# Altium footprint library IPC-7359 QFN_Sq_65P_Side_N.PcbLib: 48 footprints (part 3 of 3)
Each footprint in its own frame and in the unit in brackets; x right, y up, seen from the top. Pads: shape width x height; smd on the part's side, far side on the other; paste and mask are expansions set on the pad; w line width, h text height; cw(c..) or ccw(c..) is an arc to the next point about the centre after c.
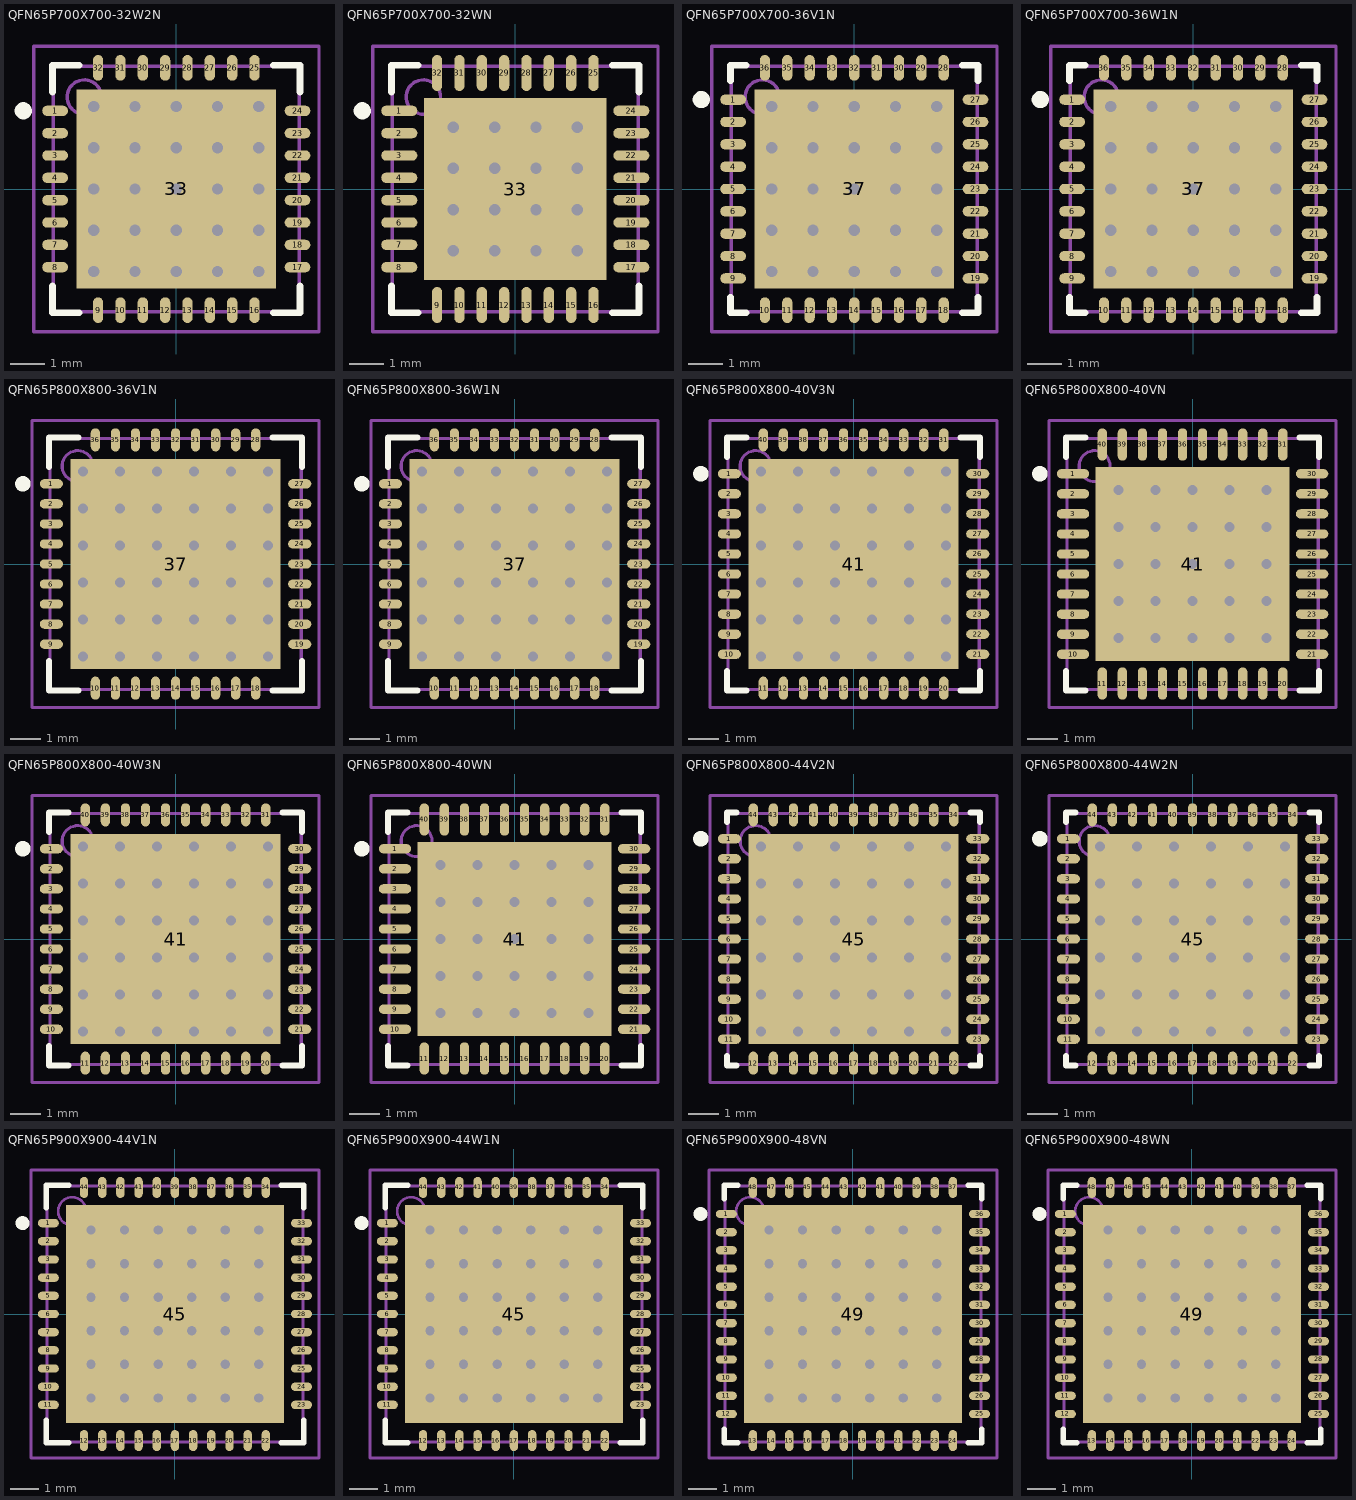
[diagram p2: the footprints below, top view; thin cyan lines are the x and y axes]

## QFN65P700X700-32W2N [mm] "QFN, 32-Leads, Body 7x7 mm, Pitch 0.65mm, IPC Medium Density"
height 0.8
pads (33):
  oval 0.75x0.3 smd: 1(-3.525,2.275) 2(-3.525,1.625) 3(-3.525,0.975) 4(-3.525,0.325) 5(-3.525,-0.325) 6(-3.525,-0.975) 7(-3.525,-1.625) 8(-3.525,-2.275) 17(3.525,-2.275) 18(3.525,-1.625) 19(3.525,-0.975) 20(3.525,-0.325) 21(3.525,0.325) 22(3.525,0.975) 23(3.525,1.625) 24(3.525,2.275)
  oval 0.3x0.75 smd: 9(-2.275,-3.525) 10(-1.625,-3.525) 11(-0.975,-3.525) 12(-0.325,-3.525) 13(0.325,-3.525) 14(0.975,-3.525) 15(1.625,-3.525) 16(2.275,-3.525) 25(2.275,3.525) 26(1.625,3.525) 27(0.975,3.525) 28(0.325,3.525) 29(-0.325,3.525) 30(-0.975,3.525) 31(-1.625,3.525) 32(-2.275,3.525)
  rect 5.8x5.8 smd: 33(0,0)
via 2.4,-2.4 diameter 0.66 hole 0.33
via 1.2,-2.4 diameter 0.66 hole 0.33
via 0,-2.4 diameter 0.66 hole 0.33
via -1.2,-2.4 diameter 0.66 hole 0.33
via -2.4,-2.4 diameter 0.66 hole 0.33
via 2.4,-1.2 diameter 0.66 hole 0.33
via 1.2,-1.2 diameter 0.66 hole 0.33
via 0,-1.2 diameter 0.66 hole 0.33
via -1.2,-1.2 diameter 0.66 hole 0.33
via -2.4,-1.2 diameter 0.66 hole 0.33
via 2.4,0 diameter 0.66 hole 0.33
via 1.2,0 diameter 0.66 hole 0.33
via 0,0 diameter 0.66 hole 0.33
via -1.2,0 diameter 0.66 hole 0.33
via -2.4,0 diameter 0.66 hole 0.33
via 2.4,1.2 diameter 0.66 hole 0.33
via 1.2,1.2 diameter 0.66 hole 0.33
via 0,1.2 diameter 0.66 hole 0.33
via -1.2,1.2 diameter 0.66 hole 0.33
via -2.4,1.2 diameter 0.66 hole 0.33
via 2.4,2.4 diameter 0.66 hole 0.33
via 1.2,2.4 diameter 0.66 hole 0.33
via 0,2.4 diameter 0.66 hole 0.33
via -1.2,2.4 diameter 0.66 hole 0.33
via -2.4,2.4 diameter 0.66 hole 0.33
Top Overlay:
  circle w0.25: c-4.45,2.275 r0.125
  lines w0.2: -3.6,-2.825 -3.6,-3.6 -2.825,-3.6 ; -3.6,2.825 -3.6,3.6 -2.825,3.6 ; 2.825,-3.6 3.6,-3.6 3.6,-2.825 ; 2.825,3.6 3.6,3.6 3.6,2.825
Mechanical 13:
  circle w0.1: c-2.675,2.675 r0.5
  lines w0.1: -3.575,-3.575 3.575,-3.575 3.575,3.575 -3.575,3.575 -3.575,-3.575
Mechanical 15:
  lines w0.1: -0.5,0 0.5,0 ; 0,-0.5 0,0.5 ; -4.15,-4.15 4.15,-4.15 4.15,4.15 -4.15,4.15 -4.15,-4.15
3D body: height 0.8, standoff 0, extent -3.575,-3.575 3.575,3.575

## QFN65P700X700-32WN [mm] "QFN, 32-Leads, Body 7x7 mm, Pitch 0.65mm, IPC Medium Density"
height 0.8
pads (33):
  oval 1.05x0.3 smd: 1(-3.375,2.275) 2(-3.375,1.625) 3(-3.375,0.975) 4(-3.375,0.325) 5(-3.375,-0.325) 6(-3.375,-0.975) 7(-3.375,-1.625) 8(-3.375,-2.275) 17(3.375,-2.275) 18(3.375,-1.625) 19(3.375,-0.975) 20(3.375,-0.325) 21(3.375,0.325) 22(3.375,0.975) 23(3.375,1.625) 24(3.375,2.275)
  oval 0.3x1.05 smd: 9(-2.275,-3.375) 10(-1.625,-3.375) 11(-0.975,-3.375) 12(-0.325,-3.375) 13(0.325,-3.375) 14(0.975,-3.375) 15(1.625,-3.375) 16(2.275,-3.375) 25(2.275,3.375) 26(1.625,3.375) 27(0.975,3.375) 28(0.325,3.375) 29(-0.325,3.375) 30(-0.975,3.375) 31(-1.625,3.375) 32(-2.275,3.375)
  rect 5.3x5.3 smd: 33(0,0)
via 1.8,-1.8 diameter 0.66 hole 0.33
via 0.6,-1.8 diameter 0.66 hole 0.33
via -0.6,-1.8 diameter 0.66 hole 0.33
via -1.8,-1.8 diameter 0.66 hole 0.33
via 1.8,-0.6 diameter 0.66 hole 0.33
via 0.6,-0.6 diameter 0.66 hole 0.33
via -0.6,-0.6 diameter 0.66 hole 0.33
via -1.8,-0.6 diameter 0.66 hole 0.33
via 1.8,0.6 diameter 0.66 hole 0.33
via 0.6,0.6 diameter 0.66 hole 0.33
via -0.6,0.6 diameter 0.66 hole 0.33
via -1.8,0.6 diameter 0.66 hole 0.33
via 1.8,1.8 diameter 0.66 hole 0.33
via 0.6,1.8 diameter 0.66 hole 0.33
via -0.6,1.8 diameter 0.66 hole 0.33
via -1.8,1.8 diameter 0.66 hole 0.33
Top Overlay:
  circle w0.25: c-4.45,2.275 r0.125
  lines w0.2: -3.6,-2.825 -3.6,-3.6 -2.825,-3.6 ; -3.6,2.825 -3.6,3.6 -2.825,3.6 ; 2.825,-3.6 3.6,-3.6 3.6,-2.825 ; 2.825,3.6 3.6,3.6 3.6,2.825
Mechanical 13:
  circle w0.1: c-2.675,2.675 r0.5
  lines w0.1: -3.575,-3.575 3.575,-3.575 3.575,3.575 -3.575,3.575 -3.575,-3.575
Mechanical 15:
  lines w0.1: -0.5,0 0.5,0 ; 0,-0.5 0,0.5 ; -4.15,-4.15 4.15,-4.15 4.15,4.15 -4.15,4.15 -4.15,-4.15
3D body: height 0.8, standoff 0, extent -3.575,-3.575 3.575,3.575

## QFN65P700X700-36V1N [mm] "QFN, 36-Leads, Body 7x7 mm, Pitch 0.65mm, IPC Medium Density"
height 1
pads (37):
  oval 0.75x0.3 smd: 1(-3.525,2.6) 2(-3.525,1.95) 3(-3.525,1.3) 4(-3.525,0.65) 5(-3.525,0) 6(-3.525,-0.65) 7(-3.525,-1.3) 8(-3.525,-1.95) 9(-3.525,-2.6) 19(3.525,-2.6) 20(3.525,-1.95) 21(3.525,-1.3) 22(3.525,-0.65) 23(3.525,0) 24(3.525,0.65) 25(3.525,1.3) 26(3.525,1.95) 27(3.525,2.6)
  oval 0.3x0.75 smd: 10(-2.6,-3.525) 11(-1.95,-3.525) 12(-1.3,-3.525) 13(-0.65,-3.525) 14(0,-3.525) 15(0.65,-3.525) 16(1.3,-3.525) 17(1.95,-3.525) 18(2.6,-3.525) 28(2.6,3.525) 29(1.95,3.525) 30(1.3,3.525) 31(0.65,3.525) 32(0,3.525) 33(-0.65,3.525) 34(-1.3,3.525) 35(-1.95,3.525) 36(-2.6,3.525)
  rect 5.8x5.8 smd: 37(0,0)
via 2.4,-2.4 diameter 0.66 hole 0.33
via 1.2,-2.4 diameter 0.66 hole 0.33
via 0,-2.4 diameter 0.66 hole 0.33
via -1.2,-2.4 diameter 0.66 hole 0.33
via -2.4,-2.4 diameter 0.66 hole 0.33
via 2.4,-1.2 diameter 0.66 hole 0.33
via 1.2,-1.2 diameter 0.66 hole 0.33
via 0,-1.2 diameter 0.66 hole 0.33
via -1.2,-1.2 diameter 0.66 hole 0.33
via -2.4,-1.2 diameter 0.66 hole 0.33
via 2.4,0 diameter 0.66 hole 0.33
via 1.2,0 diameter 0.66 hole 0.33
via 0,0 diameter 0.66 hole 0.33
via -1.2,0 diameter 0.66 hole 0.33
via -2.4,0 diameter 0.66 hole 0.33
via 2.4,1.2 diameter 0.66 hole 0.33
via 1.2,1.2 diameter 0.66 hole 0.33
via 0,1.2 diameter 0.66 hole 0.33
via -1.2,1.2 diameter 0.66 hole 0.33
via -2.4,1.2 diameter 0.66 hole 0.33
via 2.4,2.4 diameter 0.66 hole 0.33
via 1.2,2.4 diameter 0.66 hole 0.33
via 0,2.4 diameter 0.66 hole 0.33
via -1.2,2.4 diameter 0.66 hole 0.33
via -2.4,2.4 diameter 0.66 hole 0.33
Top Overlay:
  circle w0.25: c-4.45,2.6 r0.125
  lines w0.2: -3.6,-3.15 -3.6,-3.6 -3.15,-3.6 ; -3.6,3.15 -3.6,3.6 -3.15,3.6 ; 3.15,-3.6 3.6,-3.6 3.6,-3.15 ; 3.15,3.6 3.6,3.6 3.6,3.15
Mechanical 13:
  circle w0.1: c-2.675,2.675 r0.5
  lines w0.1: -3.575,-3.575 3.575,-3.575 3.575,3.575 -3.575,3.575 -3.575,-3.575
Mechanical 15:
  lines w0.1: -0.5,0 0.5,0 ; 0,-0.5 0,0.5 ; -4.15,-4.15 4.15,-4.15 4.15,4.15 -4.15,4.15 -4.15,-4.15
3D body: height 1, standoff 0, extent -3.575,-3.575 3.575,3.575

## QFN65P700X700-36W1N [mm] "QFN, 36-Leads, Body 7x7 mm, Pitch 0.65mm, IPC Medium Density"
height 0.8
pads (37):
  oval 0.75x0.3 smd: 1(-3.525,2.6) 2(-3.525,1.95) 3(-3.525,1.3) 4(-3.525,0.65) 5(-3.525,0) 6(-3.525,-0.65) 7(-3.525,-1.3) 8(-3.525,-1.95) 9(-3.525,-2.6) 19(3.525,-2.6) 20(3.525,-1.95) 21(3.525,-1.3) 22(3.525,-0.65) 23(3.525,0) 24(3.525,0.65) 25(3.525,1.3) 26(3.525,1.95) 27(3.525,2.6)
  oval 0.3x0.75 smd: 10(-2.6,-3.525) 11(-1.95,-3.525) 12(-1.3,-3.525) 13(-0.65,-3.525) 14(0,-3.525) 15(0.65,-3.525) 16(1.3,-3.525) 17(1.95,-3.525) 18(2.6,-3.525) 28(2.6,3.525) 29(1.95,3.525) 30(1.3,3.525) 31(0.65,3.525) 32(0,3.525) 33(-0.65,3.525) 34(-1.3,3.525) 35(-1.95,3.525) 36(-2.6,3.525)
  rect 5.8x5.8 smd: 37(0,0)
via 2.4,-2.4 diameter 0.66 hole 0.33
via 1.2,-2.4 diameter 0.66 hole 0.33
via 0,-2.4 diameter 0.66 hole 0.33
via -1.2,-2.4 diameter 0.66 hole 0.33
via -2.4,-2.4 diameter 0.66 hole 0.33
via 2.4,-1.2 diameter 0.66 hole 0.33
via 1.2,-1.2 diameter 0.66 hole 0.33
via 0,-1.2 diameter 0.66 hole 0.33
via -1.2,-1.2 diameter 0.66 hole 0.33
via -2.4,-1.2 diameter 0.66 hole 0.33
via 2.4,0 diameter 0.66 hole 0.33
via 1.2,0 diameter 0.66 hole 0.33
via 0,0 diameter 0.66 hole 0.33
via -1.2,0 diameter 0.66 hole 0.33
via -2.4,0 diameter 0.66 hole 0.33
via 2.4,1.2 diameter 0.66 hole 0.33
via 1.2,1.2 diameter 0.66 hole 0.33
via 0,1.2 diameter 0.66 hole 0.33
via -1.2,1.2 diameter 0.66 hole 0.33
via -2.4,1.2 diameter 0.66 hole 0.33
via 2.4,2.4 diameter 0.66 hole 0.33
via 1.2,2.4 diameter 0.66 hole 0.33
via 0,2.4 diameter 0.66 hole 0.33
via -1.2,2.4 diameter 0.66 hole 0.33
via -2.4,2.4 diameter 0.66 hole 0.33
Top Overlay:
  circle w0.25: c-4.45,2.6 r0.125
  lines w0.2: -3.6,-3.15 -3.6,-3.6 -3.15,-3.6 ; -3.6,3.15 -3.6,3.6 -3.15,3.6 ; 3.15,-3.6 3.6,-3.6 3.6,-3.15 ; 3.15,3.6 3.6,3.6 3.6,3.15
Mechanical 13:
  circle w0.1: c-2.675,2.675 r0.5
  lines w0.1: -3.575,-3.575 3.575,-3.575 3.575,3.575 -3.575,3.575 -3.575,-3.575
Mechanical 15:
  lines w0.1: -0.5,0 0.5,0 ; 0,-0.5 0,0.5 ; -4.15,-4.15 4.15,-4.15 4.15,4.15 -4.15,4.15 -4.15,-4.15
3D body: height 0.8, standoff 0, extent -3.575,-3.575 3.575,3.575

## QFN65P800X800-36V1N [mm] "QFN, 36-Leads, Body 8x8 mm, Pitch 0.65mm, IPC Medium Density"
height 1
pads (37):
  oval 0.75x0.3 smd: 1(-4.025,2.6) 2(-4.025,1.95) 3(-4.025,1.3) 4(-4.025,0.65) 5(-4.025,0) 6(-4.025,-0.65) 7(-4.025,-1.3) 8(-4.025,-1.95) 9(-4.025,-2.6) 19(4.025,-2.6) 20(4.025,-1.95) 21(4.025,-1.3) 22(4.025,-0.65) 23(4.025,0) 24(4.025,0.65) 25(4.025,1.3) 26(4.025,1.95) 27(4.025,2.6)
  oval 0.3x0.75 smd: 10(-2.6,-4.025) 11(-1.95,-4.025) 12(-1.3,-4.025) 13(-0.65,-4.025) 14(0,-4.025) 15(0.65,-4.025) 16(1.3,-4.025) 17(1.95,-4.025) 18(2.6,-4.025) 28(2.6,4.025) 29(1.95,4.025) 30(1.3,4.025) 31(0.65,4.025) 32(0,4.025) 33(-0.65,4.025) 34(-1.3,4.025) 35(-1.95,4.025) 36(-2.6,4.025)
  rect 6.8x6.8 smd: 37(0,0)
via 3,-3 diameter 0.66 hole 0.33
via 1.8,-3 diameter 0.66 hole 0.33
via 0.6,-3 diameter 0.66 hole 0.33
via -0.6,-3 diameter 0.66 hole 0.33
via -1.8,-3 diameter 0.66 hole 0.33
via -3,-3 diameter 0.66 hole 0.33
via 3,-1.8 diameter 0.66 hole 0.33
via 1.8,-1.8 diameter 0.66 hole 0.33
via 0.6,-1.8 diameter 0.66 hole 0.33
via -0.6,-1.8 diameter 0.66 hole 0.33
via -1.8,-1.8 diameter 0.66 hole 0.33
via -3,-1.8 diameter 0.66 hole 0.33
via 3,-0.6 diameter 0.66 hole 0.33
via 1.8,-0.6 diameter 0.66 hole 0.33
via 0.6,-0.6 diameter 0.66 hole 0.33
via -0.6,-0.6 diameter 0.66 hole 0.33
via -1.8,-0.6 diameter 0.66 hole 0.33
via -3,-0.6 diameter 0.66 hole 0.33
via 3,0.6 diameter 0.66 hole 0.33
via 1.8,0.6 diameter 0.66 hole 0.33
via 0.6,0.6 diameter 0.66 hole 0.33
via -0.6,0.6 diameter 0.66 hole 0.33
via -1.8,0.6 diameter 0.66 hole 0.33
via -3,0.6 diameter 0.66 hole 0.33
via 3,1.8 diameter 0.66 hole 0.33
via 1.8,1.8 diameter 0.66 hole 0.33
via 0.6,1.8 diameter 0.66 hole 0.33
via -0.6,1.8 diameter 0.66 hole 0.33
via -1.8,1.8 diameter 0.66 hole 0.33
via -3,1.8 diameter 0.66 hole 0.33
via 3,3 diameter 0.66 hole 0.33
via 1.8,3 diameter 0.66 hole 0.33
via 0.6,3 diameter 0.66 hole 0.33
via -0.6,3 diameter 0.66 hole 0.33
via -1.8,3 diameter 0.66 hole 0.33
via -3,3 diameter 0.66 hole 0.33
Top Overlay:
  circle w0.25: c-4.95,2.6 r0.125
  lines w0.2: -4.1,-3.15 -4.1,-4.1 -3.15,-4.1 ; -4.1,3.15 -4.1,4.1 -3.15,4.1 ; 3.15,-4.1 4.1,-4.1 4.1,-3.15 ; 3.15,4.1 4.1,4.1 4.1,3.15
Mechanical 13:
  circle w0.1: c-3.175,3.175 r0.5
  lines w0.1: -4.075,-4.075 4.075,-4.075 4.075,4.075 -4.075,4.075 -4.075,-4.075
Mechanical 15:
  lines w0.1: -0.5,0 0.5,0 ; 0,-0.5 0,0.5 ; -4.65,-4.65 4.65,-4.65 4.65,4.65 -4.65,4.65 -4.65,-4.65
3D body: height 1, standoff 0, extent -4.075,-4.075 4.075,4.075

## QFN65P800X800-36W1N [mm] "QFN, 36-Leads, Body 8x8 mm, Pitch 0.65mm, IPC Medium Density"
height 0.8
pads (37):
  oval 0.75x0.3 smd: 1(-4.025,2.6) 2(-4.025,1.95) 3(-4.025,1.3) 4(-4.025,0.65) 5(-4.025,0) 6(-4.025,-0.65) 7(-4.025,-1.3) 8(-4.025,-1.95) 9(-4.025,-2.6) 19(4.025,-2.6) 20(4.025,-1.95) 21(4.025,-1.3) 22(4.025,-0.65) 23(4.025,0) 24(4.025,0.65) 25(4.025,1.3) 26(4.025,1.95) 27(4.025,2.6)
  oval 0.3x0.75 smd: 10(-2.6,-4.025) 11(-1.95,-4.025) 12(-1.3,-4.025) 13(-0.65,-4.025) 14(0,-4.025) 15(0.65,-4.025) 16(1.3,-4.025) 17(1.95,-4.025) 18(2.6,-4.025) 28(2.6,4.025) 29(1.95,4.025) 30(1.3,4.025) 31(0.65,4.025) 32(0,4.025) 33(-0.65,4.025) 34(-1.3,4.025) 35(-1.95,4.025) 36(-2.6,4.025)
  rect 6.8x6.8 smd: 37(0,0)
via 3,-3 diameter 0.66 hole 0.33
via 1.8,-3 diameter 0.66 hole 0.33
via 0.6,-3 diameter 0.66 hole 0.33
via -0.6,-3 diameter 0.66 hole 0.33
via -1.8,-3 diameter 0.66 hole 0.33
via -3,-3 diameter 0.66 hole 0.33
via 3,-1.8 diameter 0.66 hole 0.33
via 1.8,-1.8 diameter 0.66 hole 0.33
via 0.6,-1.8 diameter 0.66 hole 0.33
via -0.6,-1.8 diameter 0.66 hole 0.33
via -1.8,-1.8 diameter 0.66 hole 0.33
via -3,-1.8 diameter 0.66 hole 0.33
via 3,-0.6 diameter 0.66 hole 0.33
via 1.8,-0.6 diameter 0.66 hole 0.33
via 0.6,-0.6 diameter 0.66 hole 0.33
via -0.6,-0.6 diameter 0.66 hole 0.33
via -1.8,-0.6 diameter 0.66 hole 0.33
via -3,-0.6 diameter 0.66 hole 0.33
via 3,0.6 diameter 0.66 hole 0.33
via 1.8,0.6 diameter 0.66 hole 0.33
via 0.6,0.6 diameter 0.66 hole 0.33
via -0.6,0.6 diameter 0.66 hole 0.33
via -1.8,0.6 diameter 0.66 hole 0.33
via -3,0.6 diameter 0.66 hole 0.33
via 3,1.8 diameter 0.66 hole 0.33
via 1.8,1.8 diameter 0.66 hole 0.33
via 0.6,1.8 diameter 0.66 hole 0.33
via -0.6,1.8 diameter 0.66 hole 0.33
via -1.8,1.8 diameter 0.66 hole 0.33
via -3,1.8 diameter 0.66 hole 0.33
via 3,3 diameter 0.66 hole 0.33
via 1.8,3 diameter 0.66 hole 0.33
via 0.6,3 diameter 0.66 hole 0.33
via -0.6,3 diameter 0.66 hole 0.33
via -1.8,3 diameter 0.66 hole 0.33
via -3,3 diameter 0.66 hole 0.33
Top Overlay:
  circle w0.25: c-4.95,2.6 r0.125
  lines w0.2: -4.1,-3.15 -4.1,-4.1 -3.15,-4.1 ; -4.1,3.15 -4.1,4.1 -3.15,4.1 ; 3.15,-4.1 4.1,-4.1 4.1,-3.15 ; 3.15,4.1 4.1,4.1 4.1,3.15
Mechanical 13:
  circle w0.1: c-3.175,3.175 r0.5
  lines w0.1: -4.075,-4.075 4.075,-4.075 4.075,4.075 -4.075,4.075 -4.075,-4.075
Mechanical 15:
  lines w0.1: -0.5,0 0.5,0 ; 0,-0.5 0,0.5 ; -4.65,-4.65 4.65,-4.65 4.65,4.65 -4.65,4.65 -4.65,-4.65
3D body: height 0.8, standoff 0, extent -4.075,-4.075 4.075,4.075

## QFN65P800X800-40V3N [mm] "QFN, 40-Leads, Body 8x8 mm, Pitch 0.65mm, IPC Medium Density"
height 1
pads (41):
  oval 0.75x0.3 smd: 1(-4.025,2.925) 2(-4.025,2.275) 3(-4.025,1.625) 4(-4.025,0.975) 5(-4.025,0.325) 6(-4.025,-0.325) 7(-4.025,-0.975) 8(-4.025,-1.625) 9(-4.025,-2.275) 10(-4.025,-2.925) 21(4.025,-2.925) 22(4.025,-2.275) 23(4.025,-1.625) 24(4.025,-0.975) 25(4.025,-0.325) 26(4.025,0.325) 27(4.025,0.975) 28(4.025,1.625) 29(4.025,2.275) 30(4.025,2.925)
  oval 0.3x0.75 smd: 11(-2.925,-4.025) 12(-2.275,-4.025) 13(-1.625,-4.025) 14(-0.975,-4.025) 15(-0.325,-4.025) 16(0.325,-4.025) 17(0.975,-4.025) 18(1.625,-4.025) 19(2.275,-4.025) 20(2.925,-4.025) 31(2.925,4.025) 32(2.275,4.025) 33(1.625,4.025) 34(0.975,4.025) 35(0.325,4.025) 36(-0.325,4.025) 37(-0.975,4.025) 38(-1.625,4.025) 39(-2.275,4.025) 40(-2.925,4.025)
  rect 6.8x6.8 smd: 41(0,0)
via 3,-3 diameter 0.66 hole 0.33
via 1.8,-3 diameter 0.66 hole 0.33
via 0.6,-3 diameter 0.66 hole 0.33
via -0.6,-3 diameter 0.66 hole 0.33
via -1.8,-3 diameter 0.66 hole 0.33
via -3,-3 diameter 0.66 hole 0.33
via 3,-1.8 diameter 0.66 hole 0.33
via 1.8,-1.8 diameter 0.66 hole 0.33
via 0.6,-1.8 diameter 0.66 hole 0.33
via -0.6,-1.8 diameter 0.66 hole 0.33
via -1.8,-1.8 diameter 0.66 hole 0.33
via -3,-1.8 diameter 0.66 hole 0.33
via 3,-0.6 diameter 0.66 hole 0.33
via 1.8,-0.6 diameter 0.66 hole 0.33
via 0.6,-0.6 diameter 0.66 hole 0.33
via -0.6,-0.6 diameter 0.66 hole 0.33
via -1.8,-0.6 diameter 0.66 hole 0.33
via -3,-0.6 diameter 0.66 hole 0.33
via 3,0.6 diameter 0.66 hole 0.33
via 1.8,0.6 diameter 0.66 hole 0.33
via 0.6,0.6 diameter 0.66 hole 0.33
via -0.6,0.6 diameter 0.66 hole 0.33
via -1.8,0.6 diameter 0.66 hole 0.33
via -3,0.6 diameter 0.66 hole 0.33
via 3,1.8 diameter 0.66 hole 0.33
via 1.8,1.8 diameter 0.66 hole 0.33
via 0.6,1.8 diameter 0.66 hole 0.33
via -0.6,1.8 diameter 0.66 hole 0.33
via -1.8,1.8 diameter 0.66 hole 0.33
via -3,1.8 diameter 0.66 hole 0.33
via 3,3 diameter 0.66 hole 0.33
via 1.8,3 diameter 0.66 hole 0.33
via 0.6,3 diameter 0.66 hole 0.33
via -0.6,3 diameter 0.66 hole 0.33
via -1.8,3 diameter 0.66 hole 0.33
via -3,3 diameter 0.66 hole 0.33
Top Overlay:
  circle w0.25: c-4.95,2.925 r0.125
  lines w0.2: -4.1,-3.475 -4.1,-4.1 -3.475,-4.1 ; -4.1,3.475 -4.1,4.1 -3.475,4.1 ; 3.475,-4.1 4.1,-4.1 4.1,-3.475 ; 3.475,4.1 4.1,4.1 4.1,3.475
Mechanical 13:
  circle w0.1: c-3.175,3.175 r0.5
  lines w0.1: -4.075,-4.075 4.075,-4.075 4.075,4.075 -4.075,4.075 -4.075,-4.075
Mechanical 15:
  lines w0.1: -0.5,0 0.5,0 ; 0,-0.5 0,0.5 ; -4.65,-4.65 4.65,-4.65 4.65,4.65 -4.65,4.65 -4.65,-4.65
3D body: height 1, standoff 0, extent -4.075,-4.075 4.075,4.075

## QFN65P800X800-40VN [mm] "QFN, 40-Leads, Body 8x8 mm, Pitch 0.65mm, IPC Medium Density"
height 1
pads (41):
  oval 1.05x0.3 smd: 1(-3.875,2.925) 2(-3.875,2.275) 3(-3.875,1.625) 4(-3.875,0.975) 5(-3.875,0.325) 6(-3.875,-0.325) 7(-3.875,-0.975) 8(-3.875,-1.625) 9(-3.875,-2.275) 10(-3.875,-2.925) 21(3.875,-2.925) 22(3.875,-2.275) 23(3.875,-1.625) 24(3.875,-0.975) 25(3.875,-0.325) 26(3.875,0.325) 27(3.875,0.975) 28(3.875,1.625) 29(3.875,2.275) 30(3.875,2.925)
  oval 0.3x1.05 smd: 11(-2.925,-3.875) 12(-2.275,-3.875) 13(-1.625,-3.875) 14(-0.975,-3.875) 15(-0.325,-3.875) 16(0.325,-3.875) 17(0.975,-3.875) 18(1.625,-3.875) 19(2.275,-3.875) 20(2.925,-3.875) 31(2.925,3.875) 32(2.275,3.875) 33(1.625,3.875) 34(0.975,3.875) 35(0.325,3.875) 36(-0.325,3.875) 37(-0.975,3.875) 38(-1.625,3.875) 39(-2.275,3.875) 40(-2.925,3.875)
  rect 6.3x6.3 smd: 41(0,0)
via 2.4,-2.4 diameter 0.66 hole 0.33
via 1.2,-2.4 diameter 0.66 hole 0.33
via 0,-2.4 diameter 0.66 hole 0.33
via -1.2,-2.4 diameter 0.66 hole 0.33
via -2.4,-2.4 diameter 0.66 hole 0.33
via 2.4,-1.2 diameter 0.66 hole 0.33
via 1.2,-1.2 diameter 0.66 hole 0.33
via 0,-1.2 diameter 0.66 hole 0.33
via -1.2,-1.2 diameter 0.66 hole 0.33
via -2.4,-1.2 diameter 0.66 hole 0.33
via 2.4,0 diameter 0.66 hole 0.33
via 1.2,0 diameter 0.66 hole 0.33
via 0,0 diameter 0.66 hole 0.33
via -1.2,0 diameter 0.66 hole 0.33
via -2.4,0 diameter 0.66 hole 0.33
via 2.4,1.2 diameter 0.66 hole 0.33
via 1.2,1.2 diameter 0.66 hole 0.33
via 0,1.2 diameter 0.66 hole 0.33
via -1.2,1.2 diameter 0.66 hole 0.33
via -2.4,1.2 diameter 0.66 hole 0.33
via 2.4,2.4 diameter 0.66 hole 0.33
via 1.2,2.4 diameter 0.66 hole 0.33
via 0,2.4 diameter 0.66 hole 0.33
via -1.2,2.4 diameter 0.66 hole 0.33
via -2.4,2.4 diameter 0.66 hole 0.33
Top Overlay:
  circle w0.25: c-4.95,2.925 r0.125
  lines w0.2: -4.1,-3.475 -4.1,-4.1 -3.475,-4.1 ; -4.1,3.475 -4.1,4.1 -3.475,4.1 ; 3.475,-4.1 4.1,-4.1 4.1,-3.475 ; 3.475,4.1 4.1,4.1 4.1,3.475
Mechanical 13:
  circle w0.1: c-3.175,3.175 r0.5
  lines w0.1: -4.075,-4.075 4.075,-4.075 4.075,4.075 -4.075,4.075 -4.075,-4.075
Mechanical 15:
  lines w0.1: -0.5,0 0.5,0 ; 0,-0.5 0,0.5 ; -4.65,-4.65 4.65,-4.65 4.65,4.65 -4.65,4.65 -4.65,-4.65
3D body: height 1, standoff 0, extent -4.075,-4.075 4.075,4.075

## QFN65P800X800-40W3N [mm] "QFN, 40-Leads, Body 8x8 mm, Pitch 0.65mm, IPC Medium Density"
height 0.8
pads (41):
  oval 0.75x0.3 smd: 1(-4.025,2.925) 2(-4.025,2.275) 3(-4.025,1.625) 4(-4.025,0.975) 5(-4.025,0.325) 6(-4.025,-0.325) 7(-4.025,-0.975) 8(-4.025,-1.625) 9(-4.025,-2.275) 10(-4.025,-2.925) 21(4.025,-2.925) 22(4.025,-2.275) 23(4.025,-1.625) 24(4.025,-0.975) 25(4.025,-0.325) 26(4.025,0.325) 27(4.025,0.975) 28(4.025,1.625) 29(4.025,2.275) 30(4.025,2.925)
  oval 0.3x0.75 smd: 11(-2.925,-4.025) 12(-2.275,-4.025) 13(-1.625,-4.025) 14(-0.975,-4.025) 15(-0.325,-4.025) 16(0.325,-4.025) 17(0.975,-4.025) 18(1.625,-4.025) 19(2.275,-4.025) 20(2.925,-4.025) 31(2.925,4.025) 32(2.275,4.025) 33(1.625,4.025) 34(0.975,4.025) 35(0.325,4.025) 36(-0.325,4.025) 37(-0.975,4.025) 38(-1.625,4.025) 39(-2.275,4.025) 40(-2.925,4.025)
  rect 6.8x6.8 smd: 41(0,0)
via 3,-3 diameter 0.66 hole 0.33
via 1.8,-3 diameter 0.66 hole 0.33
via 0.6,-3 diameter 0.66 hole 0.33
via -0.6,-3 diameter 0.66 hole 0.33
via -1.8,-3 diameter 0.66 hole 0.33
via -3,-3 diameter 0.66 hole 0.33
via 3,-1.8 diameter 0.66 hole 0.33
via 1.8,-1.8 diameter 0.66 hole 0.33
via 0.6,-1.8 diameter 0.66 hole 0.33
via -0.6,-1.8 diameter 0.66 hole 0.33
via -1.8,-1.8 diameter 0.66 hole 0.33
via -3,-1.8 diameter 0.66 hole 0.33
via 3,-0.6 diameter 0.66 hole 0.33
via 1.8,-0.6 diameter 0.66 hole 0.33
via 0.6,-0.6 diameter 0.66 hole 0.33
via -0.6,-0.6 diameter 0.66 hole 0.33
via -1.8,-0.6 diameter 0.66 hole 0.33
via -3,-0.6 diameter 0.66 hole 0.33
via 3,0.6 diameter 0.66 hole 0.33
via 1.8,0.6 diameter 0.66 hole 0.33
via 0.6,0.6 diameter 0.66 hole 0.33
via -0.6,0.6 diameter 0.66 hole 0.33
via -1.8,0.6 diameter 0.66 hole 0.33
via -3,0.6 diameter 0.66 hole 0.33
via 3,1.8 diameter 0.66 hole 0.33
via 1.8,1.8 diameter 0.66 hole 0.33
via 0.6,1.8 diameter 0.66 hole 0.33
via -0.6,1.8 diameter 0.66 hole 0.33
via -1.8,1.8 diameter 0.66 hole 0.33
via -3,1.8 diameter 0.66 hole 0.33
via 3,3 diameter 0.66 hole 0.33
via 1.8,3 diameter 0.66 hole 0.33
via 0.6,3 diameter 0.66 hole 0.33
via -0.6,3 diameter 0.66 hole 0.33
via -1.8,3 diameter 0.66 hole 0.33
via -3,3 diameter 0.66 hole 0.33
Top Overlay:
  circle w0.25: c-4.95,2.925 r0.125
  lines w0.2: -4.1,-3.475 -4.1,-4.1 -3.475,-4.1 ; -4.1,3.475 -4.1,4.1 -3.475,4.1 ; 3.475,-4.1 4.1,-4.1 4.1,-3.475 ; 3.475,4.1 4.1,4.1 4.1,3.475
Mechanical 13:
  circle w0.1: c-3.175,3.175 r0.5
  lines w0.1: -4.075,-4.075 4.075,-4.075 4.075,4.075 -4.075,4.075 -4.075,-4.075
Mechanical 15:
  lines w0.1: -0.5,0 0.5,0 ; 0,-0.5 0,0.5 ; -4.65,-4.65 4.65,-4.65 4.65,4.65 -4.65,4.65 -4.65,-4.65
3D body: height 0.8, standoff 0, extent -4.075,-4.075 4.075,4.075

## QFN65P800X800-40WN [mm] "QFN, 40-Leads, Body 8x8 mm, Pitch 0.65mm, IPC Medium Density"
height 0.8
pads (41):
  oval 1.05x0.3 smd: 1(-3.875,2.925) 2(-3.875,2.275) 3(-3.875,1.625) 4(-3.875,0.975) 5(-3.875,0.325) 6(-3.875,-0.325) 7(-3.875,-0.975) 8(-3.875,-1.625) 9(-3.875,-2.275) 10(-3.875,-2.925) 21(3.875,-2.925) 22(3.875,-2.275) 23(3.875,-1.625) 24(3.875,-0.975) 25(3.875,-0.325) 26(3.875,0.325) 27(3.875,0.975) 28(3.875,1.625) 29(3.875,2.275) 30(3.875,2.925)
  oval 0.3x1.05 smd: 11(-2.925,-3.875) 12(-2.275,-3.875) 13(-1.625,-3.875) 14(-0.975,-3.875) 15(-0.325,-3.875) 16(0.325,-3.875) 17(0.975,-3.875) 18(1.625,-3.875) 19(2.275,-3.875) 20(2.925,-3.875) 31(2.925,3.875) 32(2.275,3.875) 33(1.625,3.875) 34(0.975,3.875) 35(0.325,3.875) 36(-0.325,3.875) 37(-0.975,3.875) 38(-1.625,3.875) 39(-2.275,3.875) 40(-2.925,3.875)
  rect 6.3x6.3 smd: 41(0,0)
via 2.4,-2.4 diameter 0.66 hole 0.33
via 1.2,-2.4 diameter 0.66 hole 0.33
via 0,-2.4 diameter 0.66 hole 0.33
via -1.2,-2.4 diameter 0.66 hole 0.33
via -2.4,-2.4 diameter 0.66 hole 0.33
via 2.4,-1.2 diameter 0.66 hole 0.33
via 1.2,-1.2 diameter 0.66 hole 0.33
via 0,-1.2 diameter 0.66 hole 0.33
via -1.2,-1.2 diameter 0.66 hole 0.33
via -2.4,-1.2 diameter 0.66 hole 0.33
via 2.4,0 diameter 0.66 hole 0.33
via 1.2,0 diameter 0.66 hole 0.33
via 0,0 diameter 0.66 hole 0.33
via -1.2,0 diameter 0.66 hole 0.33
via -2.4,0 diameter 0.66 hole 0.33
via 2.4,1.2 diameter 0.66 hole 0.33
via 1.2,1.2 diameter 0.66 hole 0.33
via 0,1.2 diameter 0.66 hole 0.33
via -1.2,1.2 diameter 0.66 hole 0.33
via -2.4,1.2 diameter 0.66 hole 0.33
via 2.4,2.4 diameter 0.66 hole 0.33
via 1.2,2.4 diameter 0.66 hole 0.33
via 0,2.4 diameter 0.66 hole 0.33
via -1.2,2.4 diameter 0.66 hole 0.33
via -2.4,2.4 diameter 0.66 hole 0.33
Top Overlay:
  circle w0.25: c-4.95,2.925 r0.125
  lines w0.2: -4.1,-3.475 -4.1,-4.1 -3.475,-4.1 ; -4.1,3.475 -4.1,4.1 -3.475,4.1 ; 3.475,-4.1 4.1,-4.1 4.1,-3.475 ; 3.475,4.1 4.1,4.1 4.1,3.475
Mechanical 13:
  circle w0.1: c-3.175,3.175 r0.5
  lines w0.1: -4.075,-4.075 4.075,-4.075 4.075,4.075 -4.075,4.075 -4.075,-4.075
Mechanical 15:
  lines w0.1: -0.5,0 0.5,0 ; 0,-0.5 0,0.5 ; -4.65,-4.65 4.65,-4.65 4.65,4.65 -4.65,4.65 -4.65,-4.65
3D body: height 0.8, standoff 0, extent -4.075,-4.075 4.075,4.075

## QFN65P800X800-44V2N [mm] "QFN, 44-Leads, Body 8x8 mm, Pitch 0.65mm, IPC Medium Density"
height 1
pads (45):
  oval 0.75x0.3 smd: 1(-4.025,3.25) 2(-4.025,2.6) 3(-4.025,1.95) 4(-4.025,1.3) 5(-4.025,0.65) 6(-4.025,0) 7(-4.025,-0.65) 8(-4.025,-1.3) 9(-4.025,-1.95) 10(-4.025,-2.6) 11(-4.025,-3.25) 23(4.025,-3.25) 24(4.025,-2.6) 25(4.025,-1.95) 26(4.025,-1.3) 27(4.025,-0.65) 28(4.025,0) 29(4.025,0.65) 30(4.025,1.3) 31(4.025,1.95) 32(4.025,2.6) 33(4.025,3.25)
  oval 0.3x0.75 smd: 12(-3.25,-4.025) 13(-2.6,-4.025) 14(-1.95,-4.025) 15(-1.3,-4.025) 16(-0.65,-4.025) 17(0,-4.025) 18(0.65,-4.025) 19(1.3,-4.025) 20(1.95,-4.025) 21(2.6,-4.025) 22(3.25,-4.025) 34(3.25,4.025) 35(2.6,4.025) 36(1.95,4.025) 37(1.3,4.025) 38(0.65,4.025) 39(0,4.025) 40(-0.65,4.025) 41(-1.3,4.025) 42(-1.95,4.025) 43(-2.6,4.025) 44(-3.25,4.025)
  rect 6.8x6.8 smd: 45(0,0)
via 3,-3 diameter 0.66 hole 0.33
via 1.8,-3 diameter 0.66 hole 0.33
via 0.6,-3 diameter 0.66 hole 0.33
via -0.6,-3 diameter 0.66 hole 0.33
via -1.8,-3 diameter 0.66 hole 0.33
via -3,-3 diameter 0.66 hole 0.33
via 3,-1.8 diameter 0.66 hole 0.33
via 1.8,-1.8 diameter 0.66 hole 0.33
via 0.6,-1.8 diameter 0.66 hole 0.33
via -0.6,-1.8 diameter 0.66 hole 0.33
via -1.8,-1.8 diameter 0.66 hole 0.33
via -3,-1.8 diameter 0.66 hole 0.33
via 3,-0.6 diameter 0.66 hole 0.33
via 1.8,-0.6 diameter 0.66 hole 0.33
via 0.6,-0.6 diameter 0.66 hole 0.33
via -0.6,-0.6 diameter 0.66 hole 0.33
via -1.8,-0.6 diameter 0.66 hole 0.33
via -3,-0.6 diameter 0.66 hole 0.33
via 3,0.6 diameter 0.66 hole 0.33
via 1.8,0.6 diameter 0.66 hole 0.33
via 0.6,0.6 diameter 0.66 hole 0.33
via -0.6,0.6 diameter 0.66 hole 0.33
via -1.8,0.6 diameter 0.66 hole 0.33
via -3,0.6 diameter 0.66 hole 0.33
via 3,1.8 diameter 0.66 hole 0.33
via 1.8,1.8 diameter 0.66 hole 0.33
via 0.6,1.8 diameter 0.66 hole 0.33
via -0.6,1.8 diameter 0.66 hole 0.33
via -1.8,1.8 diameter 0.66 hole 0.33
via -3,1.8 diameter 0.66 hole 0.33
via 3,3 diameter 0.66 hole 0.33
via 1.8,3 diameter 0.66 hole 0.33
via 0.6,3 diameter 0.66 hole 0.33
via -0.6,3 diameter 0.66 hole 0.33
via -1.8,3 diameter 0.66 hole 0.33
via -3,3 diameter 0.66 hole 0.33
Top Overlay:
  circle w0.25: c-4.95,3.25 r0.125
  lines w0.2: -4.1,-3.8 -4.1,-4.1 -3.8,-4.1 ; -4.1,3.8 -4.1,4.1 -3.8,4.1 ; 3.8,-4.1 4.1,-4.1 4.1,-3.8 ; 3.8,4.1 4.1,4.1 4.1,3.8
Mechanical 13:
  circle w0.1: c-3.175,3.175 r0.5
  lines w0.1: -4.075,-4.075 4.075,-4.075 4.075,4.075 -4.075,4.075 -4.075,-4.075
Mechanical 15:
  lines w0.1: -0.5,0 0.5,0 ; 0,-0.5 0,0.5 ; -4.65,-4.65 4.65,-4.65 4.65,4.65 -4.65,4.65 -4.65,-4.65
3D body: height 1, standoff 0, extent -4.075,-4.075 4.075,4.075

## QFN65P800X800-44W2N [mm] "QFN, 44-Leads, Body 8x8 mm, Pitch 0.65mm, IPC Medium Density"
height 0.8
pads (45):
  oval 0.75x0.3 smd: 1(-4.025,3.25) 2(-4.025,2.6) 3(-4.025,1.95) 4(-4.025,1.3) 5(-4.025,0.65) 6(-4.025,0) 7(-4.025,-0.65) 8(-4.025,-1.3) 9(-4.025,-1.95) 10(-4.025,-2.6) 11(-4.025,-3.25) 23(4.025,-3.25) 24(4.025,-2.6) 25(4.025,-1.95) 26(4.025,-1.3) 27(4.025,-0.65) 28(4.025,0) 29(4.025,0.65) 30(4.025,1.3) 31(4.025,1.95) 32(4.025,2.6) 33(4.025,3.25)
  oval 0.3x0.75 smd: 12(-3.25,-4.025) 13(-2.6,-4.025) 14(-1.95,-4.025) 15(-1.3,-4.025) 16(-0.65,-4.025) 17(0,-4.025) 18(0.65,-4.025) 19(1.3,-4.025) 20(1.95,-4.025) 21(2.6,-4.025) 22(3.25,-4.025) 34(3.25,4.025) 35(2.6,4.025) 36(1.95,4.025) 37(1.3,4.025) 38(0.65,4.025) 39(0,4.025) 40(-0.65,4.025) 41(-1.3,4.025) 42(-1.95,4.025) 43(-2.6,4.025) 44(-3.25,4.025)
  rect 6.8x6.8 smd: 45(0,0)
via 3,-3 diameter 0.66 hole 0.33
via 1.8,-3 diameter 0.66 hole 0.33
via 0.6,-3 diameter 0.66 hole 0.33
via -0.6,-3 diameter 0.66 hole 0.33
via -1.8,-3 diameter 0.66 hole 0.33
via -3,-3 diameter 0.66 hole 0.33
via 3,-1.8 diameter 0.66 hole 0.33
via 1.8,-1.8 diameter 0.66 hole 0.33
via 0.6,-1.8 diameter 0.66 hole 0.33
via -0.6,-1.8 diameter 0.66 hole 0.33
via -1.8,-1.8 diameter 0.66 hole 0.33
via -3,-1.8 diameter 0.66 hole 0.33
via 3,-0.6 diameter 0.66 hole 0.33
via 1.8,-0.6 diameter 0.66 hole 0.33
via 0.6,-0.6 diameter 0.66 hole 0.33
via -0.6,-0.6 diameter 0.66 hole 0.33
via -1.8,-0.6 diameter 0.66 hole 0.33
via -3,-0.6 diameter 0.66 hole 0.33
via 3,0.6 diameter 0.66 hole 0.33
via 1.8,0.6 diameter 0.66 hole 0.33
via 0.6,0.6 diameter 0.66 hole 0.33
via -0.6,0.6 diameter 0.66 hole 0.33
via -1.8,0.6 diameter 0.66 hole 0.33
via -3,0.6 diameter 0.66 hole 0.33
via 3,1.8 diameter 0.66 hole 0.33
via 1.8,1.8 diameter 0.66 hole 0.33
via 0.6,1.8 diameter 0.66 hole 0.33
via -0.6,1.8 diameter 0.66 hole 0.33
via -1.8,1.8 diameter 0.66 hole 0.33
via -3,1.8 diameter 0.66 hole 0.33
via 3,3 diameter 0.66 hole 0.33
via 1.8,3 diameter 0.66 hole 0.33
via 0.6,3 diameter 0.66 hole 0.33
via -0.6,3 diameter 0.66 hole 0.33
via -1.8,3 diameter 0.66 hole 0.33
via -3,3 diameter 0.66 hole 0.33
Top Overlay:
  circle w0.25: c-4.95,3.25 r0.125
  lines w0.2: -4.1,-3.8 -4.1,-4.1 -3.8,-4.1 ; -4.1,3.8 -4.1,4.1 -3.8,4.1 ; 3.8,-4.1 4.1,-4.1 4.1,-3.8 ; 3.8,4.1 4.1,4.1 4.1,3.8
Mechanical 13:
  circle w0.1: c-3.175,3.175 r0.5
  lines w0.1: -4.075,-4.075 4.075,-4.075 4.075,4.075 -4.075,4.075 -4.075,-4.075
Mechanical 15:
  lines w0.1: -0.5,0 0.5,0 ; 0,-0.5 0,0.5 ; -4.65,-4.65 4.65,-4.65 4.65,4.65 -4.65,4.65 -4.65,-4.65
3D body: height 0.8, standoff 0, extent -4.075,-4.075 4.075,4.075

## QFN65P900X900-44V1N [mm] "QFN, 44-Leads, Body 9x9 mm, Pitch 0.65mm, IPC Medium Density"
height 1
pads (45):
  oval 0.75x0.3 smd: 1(-4.525,3.25) 2(-4.525,2.6) 3(-4.525,1.95) 4(-4.525,1.3) 5(-4.525,0.65) 6(-4.525,0) 7(-4.525,-0.65) 8(-4.525,-1.3) 9(-4.525,-1.95) 10(-4.525,-2.6) 11(-4.525,-3.25) 23(4.525,-3.25) 24(4.525,-2.6) 25(4.525,-1.95) 26(4.525,-1.3) 27(4.525,-0.65) 28(4.525,0) 29(4.525,0.65) 30(4.525,1.3) 31(4.525,1.95) 32(4.525,2.6) 33(4.525,3.25)
  oval 0.3x0.75 smd: 12(-3.25,-4.525) 13(-2.6,-4.525) 14(-1.95,-4.525) 15(-1.3,-4.525) 16(-0.65,-4.525) 17(0,-4.525) 18(0.65,-4.525) 19(1.3,-4.525) 20(1.95,-4.525) 21(2.6,-4.525) 22(3.25,-4.525) 34(3.25,4.525) 35(2.6,4.525) 36(1.95,4.525) 37(1.3,4.525) 38(0.65,4.525) 39(0,4.525) 40(-0.65,4.525) 41(-1.3,4.525) 42(-1.95,4.525) 43(-2.6,4.525) 44(-3.25,4.525)
  rect 7.8x7.8 smd: 45(0,0)
via 3,-3 diameter 0.66 hole 0.33
via 1.8,-3 diameter 0.66 hole 0.33
via 0.6,-3 diameter 0.66 hole 0.33
via -0.6,-3 diameter 0.66 hole 0.33
via -1.8,-3 diameter 0.66 hole 0.33
via -3,-3 diameter 0.66 hole 0.33
via 3,-1.8 diameter 0.66 hole 0.33
via 1.8,-1.8 diameter 0.66 hole 0.33
via 0.6,-1.8 diameter 0.66 hole 0.33
via -0.6,-1.8 diameter 0.66 hole 0.33
via -1.8,-1.8 diameter 0.66 hole 0.33
via -3,-1.8 diameter 0.66 hole 0.33
via 3,-0.6 diameter 0.66 hole 0.33
via 1.8,-0.6 diameter 0.66 hole 0.33
via 0.6,-0.6 diameter 0.66 hole 0.33
via -0.6,-0.6 diameter 0.66 hole 0.33
via -1.8,-0.6 diameter 0.66 hole 0.33
via -3,-0.6 diameter 0.66 hole 0.33
via 3,0.6 diameter 0.66 hole 0.33
via 1.8,0.6 diameter 0.66 hole 0.33
via 0.6,0.6 diameter 0.66 hole 0.33
via -0.6,0.6 diameter 0.66 hole 0.33
via -1.8,0.6 diameter 0.66 hole 0.33
via -3,0.6 diameter 0.66 hole 0.33
via 3,1.8 diameter 0.66 hole 0.33
via 1.8,1.8 diameter 0.66 hole 0.33
via 0.6,1.8 diameter 0.66 hole 0.33
via -0.6,1.8 diameter 0.66 hole 0.33
via -1.8,1.8 diameter 0.66 hole 0.33
via -3,1.8 diameter 0.66 hole 0.33
via 3,3 diameter 0.66 hole 0.33
via 1.8,3 diameter 0.66 hole 0.33
via 0.6,3 diameter 0.66 hole 0.33
via -0.6,3 diameter 0.66 hole 0.33
via -1.8,3 diameter 0.66 hole 0.33
via -3,3 diameter 0.66 hole 0.33
Top Overlay:
  circle w0.25: c-5.45,3.25 r0.125
  lines w0.2: -4.6,-3.8 -4.6,-4.6 -3.8,-4.6 ; -4.6,3.8 -4.6,4.6 -3.8,4.6 ; 3.8,-4.6 4.6,-4.6 4.6,-3.8 ; 3.8,4.6 4.6,4.6 4.6,3.8
Mechanical 13:
  circle w0.1: c-3.675,3.675 r0.5
  lines w0.1: -4.575,-4.575 4.575,-4.575 4.575,4.575 -4.575,4.575 -4.575,-4.575
Mechanical 15:
  lines w0.1: -0.5,0 0.5,0 ; 0,-0.5 0,0.5 ; -5.15,-5.15 5.15,-5.15 5.15,5.15 -5.15,5.15 -5.15,-5.15
3D body: height 1, standoff 0, extent -4.575,-4.575 4.575,4.575

## QFN65P900X900-44W1N [mm] "QFN, 44-Leads, Body 9x9 mm, Pitch 0.65mm, IPC Medium Density"
height 0.8
pads (45):
  oval 0.75x0.3 smd: 1(-4.525,3.25) 2(-4.525,2.6) 3(-4.525,1.95) 4(-4.525,1.3) 5(-4.525,0.65) 6(-4.525,0) 7(-4.525,-0.65) 8(-4.525,-1.3) 9(-4.525,-1.95) 10(-4.525,-2.6) 11(-4.525,-3.25) 23(4.525,-3.25) 24(4.525,-2.6) 25(4.525,-1.95) 26(4.525,-1.3) 27(4.525,-0.65) 28(4.525,0) 29(4.525,0.65) 30(4.525,1.3) 31(4.525,1.95) 32(4.525,2.6) 33(4.525,3.25)
  oval 0.3x0.75 smd: 12(-3.25,-4.525) 13(-2.6,-4.525) 14(-1.95,-4.525) 15(-1.3,-4.525) 16(-0.65,-4.525) 17(0,-4.525) 18(0.65,-4.525) 19(1.3,-4.525) 20(1.95,-4.525) 21(2.6,-4.525) 22(3.25,-4.525) 34(3.25,4.525) 35(2.6,4.525) 36(1.95,4.525) 37(1.3,4.525) 38(0.65,4.525) 39(0,4.525) 40(-0.65,4.525) 41(-1.3,4.525) 42(-1.95,4.525) 43(-2.6,4.525) 44(-3.25,4.525)
  rect 7.8x7.8 smd: 45(0,0)
via 3,-3 diameter 0.66 hole 0.33
via 1.8,-3 diameter 0.66 hole 0.33
via 0.6,-3 diameter 0.66 hole 0.33
via -0.6,-3 diameter 0.66 hole 0.33
via -1.8,-3 diameter 0.66 hole 0.33
via -3,-3 diameter 0.66 hole 0.33
via 3,-1.8 diameter 0.66 hole 0.33
via 1.8,-1.8 diameter 0.66 hole 0.33
via 0.6,-1.8 diameter 0.66 hole 0.33
via -0.6,-1.8 diameter 0.66 hole 0.33
via -1.8,-1.8 diameter 0.66 hole 0.33
via -3,-1.8 diameter 0.66 hole 0.33
via 3,-0.6 diameter 0.66 hole 0.33
via 1.8,-0.6 diameter 0.66 hole 0.33
via 0.6,-0.6 diameter 0.66 hole 0.33
via -0.6,-0.6 diameter 0.66 hole 0.33
via -1.8,-0.6 diameter 0.66 hole 0.33
via -3,-0.6 diameter 0.66 hole 0.33
via 3,0.6 diameter 0.66 hole 0.33
via 1.8,0.6 diameter 0.66 hole 0.33
via 0.6,0.6 diameter 0.66 hole 0.33
via -0.6,0.6 diameter 0.66 hole 0.33
via -1.8,0.6 diameter 0.66 hole 0.33
via -3,0.6 diameter 0.66 hole 0.33
via 3,1.8 diameter 0.66 hole 0.33
via 1.8,1.8 diameter 0.66 hole 0.33
via 0.6,1.8 diameter 0.66 hole 0.33
via -0.6,1.8 diameter 0.66 hole 0.33
via -1.8,1.8 diameter 0.66 hole 0.33
via -3,1.8 diameter 0.66 hole 0.33
via 3,3 diameter 0.66 hole 0.33
via 1.8,3 diameter 0.66 hole 0.33
via 0.6,3 diameter 0.66 hole 0.33
via -0.6,3 diameter 0.66 hole 0.33
via -1.8,3 diameter 0.66 hole 0.33
via -3,3 diameter 0.66 hole 0.33
Top Overlay:
  circle w0.25: c-5.45,3.25 r0.125
  lines w0.2: -4.6,-3.8 -4.6,-4.6 -3.8,-4.6 ; -4.6,3.8 -4.6,4.6 -3.8,4.6 ; 3.8,-4.6 4.6,-4.6 4.6,-3.8 ; 3.8,4.6 4.6,4.6 4.6,3.8
Mechanical 13:
  circle w0.1: c-3.675,3.675 r0.5
  lines w0.1: -4.575,-4.575 4.575,-4.575 4.575,4.575 -4.575,4.575 -4.575,-4.575
Mechanical 15:
  lines w0.1: -0.5,0 0.5,0 ; 0,-0.5 0,0.5 ; -5.15,-5.15 5.15,-5.15 5.15,5.15 -5.15,5.15 -5.15,-5.15
3D body: height 0.8, standoff 0, extent -4.575,-4.575 4.575,4.575

## QFN65P900X900-48VN [mm] "QFN, 48-Leads, Body 9x9 mm, Pitch 0.65mm, IPC Medium Density"
height 1
pads (49):
  oval 0.75x0.3 smd: 1(-4.525,3.575) 2(-4.525,2.925) 3(-4.525,2.275) 4(-4.525,1.625) 5(-4.525,0.975) 6(-4.525,0.325) 7(-4.525,-0.325) 8(-4.525,-0.975) 9(-4.525,-1.625) 10(-4.525,-2.275) 11(-4.525,-2.925) 12(-4.525,-3.575) 25(4.525,-3.575) 26(4.525,-2.925) 27(4.525,-2.275) 28(4.525,-1.625) 29(4.525,-0.975) 30(4.525,-0.325) 31(4.525,0.325) 32(4.525,0.975) 33(4.525,1.625) 34(4.525,2.275) 35(4.525,2.925) 36(4.525,3.575)
  oval 0.3x0.75 smd: 13(-3.575,-4.525) 14(-2.925,-4.525) 15(-2.275,-4.525) 16(-1.625,-4.525) 17(-0.975,-4.525) 18(-0.325,-4.525) 19(0.325,-4.525) 20(0.975,-4.525) 21(1.625,-4.525) 22(2.275,-4.525) 23(2.925,-4.525) 24(3.575,-4.525) 37(3.575,4.525) 38(2.925,4.525) 39(2.275,4.525) 40(1.625,4.525) 41(0.975,4.525) 42(0.325,4.525) 43(-0.325,4.525) 44(-0.975,4.525) 45(-1.625,4.525) 46(-2.275,4.525) 47(-2.925,4.525) 48(-3.575,4.525)
  rect 7.8x7.8 smd: 49(0,0)
via -3,3 diameter 0.66 hole 0.33
via -1.8,3 diameter 0.66 hole 0.33
via -0.6,3 diameter 0.66 hole 0.33
via 0.6,3 diameter 0.66 hole 0.33
via 1.8,3 diameter 0.66 hole 0.33
via 3,3 diameter 0.66 hole 0.33
via -3,1.8 diameter 0.66 hole 0.33
via -1.8,1.8 diameter 0.66 hole 0.33
via -0.6,1.8 diameter 0.66 hole 0.33
via 0.6,1.8 diameter 0.66 hole 0.33
via 1.8,1.8 diameter 0.66 hole 0.33
via 3,1.8 diameter 0.66 hole 0.33
via -3,0.6 diameter 0.66 hole 0.33
via -1.8,0.6 diameter 0.66 hole 0.33
via -0.6,0.6 diameter 0.66 hole 0.33
via 0.6,0.6 diameter 0.66 hole 0.33
via 1.8,0.6 diameter 0.66 hole 0.33
via 3,0.6 diameter 0.66 hole 0.33
via -3,-0.6 diameter 0.66 hole 0.33
via -1.8,-0.6 diameter 0.66 hole 0.33
via -0.6,-0.6 diameter 0.66 hole 0.33
via 0.6,-0.6 diameter 0.66 hole 0.33
via 1.8,-0.6 diameter 0.66 hole 0.33
via 3,-0.6 diameter 0.66 hole 0.33
via -3,-1.8 diameter 0.66 hole 0.33
via -1.8,-1.8 diameter 0.66 hole 0.33
via -0.6,-1.8 diameter 0.66 hole 0.33
via 0.6,-1.8 diameter 0.66 hole 0.33
via 1.8,-1.8 diameter 0.66 hole 0.33
via 3,-1.8 diameter 0.66 hole 0.33
via -3,-3 diameter 0.66 hole 0.33
via -1.8,-3 diameter 0.66 hole 0.33
via -0.6,-3 diameter 0.66 hole 0.33
via 0.6,-3 diameter 0.66 hole 0.33
via 1.8,-3 diameter 0.66 hole 0.33
via 3,-3 diameter 0.66 hole 0.33
Top Overlay:
  circle w0.25: c-5.45,3.575 r0.125
  lines w0.2: -4.6,-4.125 -4.6,-4.6 -4.125,-4.6 ; -4.6,4.125 -4.6,4.6 -4.125,4.6 ; 4.125,-4.6 4.6,-4.6 4.6,-4.125 ; 4.125,4.6 4.6,4.6 4.6,4.125
Mechanical 13:
  circle w0.1: c-3.675,3.675 r0.5
  lines w0.1: -4.575,-4.575 -4.575,4.575 4.575,4.575 4.575,-4.575 -4.575,-4.575
Mechanical 15:
  lines w0.1: -0.5,0 0.5,0 ; 0,-0.5 0,0.5 ; -5.15,-5.15 -5.15,5.15 5.15,5.15 5.15,-5.15 -5.15,-5.15
3D body: height 1, standoff 0, extent -4.575,-4.575 4.575,4.575

## QFN65P900X900-48WN [mm] "QFN, 48-Leads, Body 9x9 mm, Pitch 0.65mm, IPC Medium Density"
height 0.8
pads (49):
  oval 0.75x0.3 smd: 1(-4.525,3.575) 2(-4.525,2.925) 3(-4.525,2.275) 4(-4.525,1.625) 5(-4.525,0.975) 6(-4.525,0.325) 7(-4.525,-0.325) 8(-4.525,-0.975) 9(-4.525,-1.625) 10(-4.525,-2.275) 11(-4.525,-2.925) 12(-4.525,-3.575) 25(4.525,-3.575) 26(4.525,-2.925) 27(4.525,-2.275) 28(4.525,-1.625) 29(4.525,-0.975) 30(4.525,-0.325) 31(4.525,0.325) 32(4.525,0.975) 33(4.525,1.625) 34(4.525,2.275) 35(4.525,2.925) 36(4.525,3.575)
  oval 0.3x0.75 smd: 13(-3.575,-4.525) 14(-2.925,-4.525) 15(-2.275,-4.525) 16(-1.625,-4.525) 17(-0.975,-4.525) 18(-0.325,-4.525) 19(0.325,-4.525) 20(0.975,-4.525) 21(1.625,-4.525) 22(2.275,-4.525) 23(2.925,-4.525) 24(3.575,-4.525) 37(3.575,4.525) 38(2.925,4.525) 39(2.275,4.525) 40(1.625,4.525) 41(0.975,4.525) 42(0.325,4.525) 43(-0.325,4.525) 44(-0.975,4.525) 45(-1.625,4.525) 46(-2.275,4.525) 47(-2.925,4.525) 48(-3.575,4.525)
  rect 7.8x7.8 smd: 49(0,0)
via -3,3 diameter 0.66 hole 0.33
via -1.8,3 diameter 0.66 hole 0.33
via -0.6,3 diameter 0.66 hole 0.33
via 0.6,3 diameter 0.66 hole 0.33
via 1.8,3 diameter 0.66 hole 0.33
via 3,3 diameter 0.66 hole 0.33
via -3,1.8 diameter 0.66 hole 0.33
via -1.8,1.8 diameter 0.66 hole 0.33
via -0.6,1.8 diameter 0.66 hole 0.33
via 0.6,1.8 diameter 0.66 hole 0.33
via 1.8,1.8 diameter 0.66 hole 0.33
via 3,1.8 diameter 0.66 hole 0.33
via -3,0.6 diameter 0.66 hole 0.33
via -1.8,0.6 diameter 0.66 hole 0.33
via -0.6,0.6 diameter 0.66 hole 0.33
via 0.6,0.6 diameter 0.66 hole 0.33
via 1.8,0.6 diameter 0.66 hole 0.33
via 3,0.6 diameter 0.66 hole 0.33
via -3,-0.6 diameter 0.66 hole 0.33
via -1.8,-0.6 diameter 0.66 hole 0.33
via -0.6,-0.6 diameter 0.66 hole 0.33
via 0.6,-0.6 diameter 0.66 hole 0.33
via 1.8,-0.6 diameter 0.66 hole 0.33
via 3,-0.6 diameter 0.66 hole 0.33
via -3,-1.8 diameter 0.66 hole 0.33
via -1.8,-1.8 diameter 0.66 hole 0.33
via -0.6,-1.8 diameter 0.66 hole 0.33
via 0.6,-1.8 diameter 0.66 hole 0.33
via 1.8,-1.8 diameter 0.66 hole 0.33
via 3,-1.8 diameter 0.66 hole 0.33
via -3,-3 diameter 0.66 hole 0.33
via -1.8,-3 diameter 0.66 hole 0.33
via -0.6,-3 diameter 0.66 hole 0.33
via 0.6,-3 diameter 0.66 hole 0.33
via 1.8,-3 diameter 0.66 hole 0.33
via 3,-3 diameter 0.66 hole 0.33
Top Overlay:
  circle w0.25: c-5.45,3.575 r0.125
  lines w0.2: -4.6,-4.125 -4.6,-4.6 -4.125,-4.6 ; -4.6,4.125 -4.6,4.6 -4.125,4.6 ; 4.125,-4.6 4.6,-4.6 4.6,-4.125 ; 4.125,4.6 4.6,4.6 4.6,4.125
Mechanical 13:
  circle w0.1: c-3.675,3.675 r0.5
  lines w0.1: -4.575,-4.575 -4.575,4.575 4.575,4.575 4.575,-4.575 -4.575,-4.575
Mechanical 15:
  lines w0.1: -0.5,0 0.5,0 ; 0,-0.5 0,0.5 ; -5.15,-5.15 -5.15,5.15 5.15,5.15 5.15,-5.15 -5.15,-5.15
3D body: height 0.8, standoff 0, extent -4.575,-4.575 4.575,4.575